# EAGLE library part DRV8834 (library ZHAW_BA)
DRV8834, Steppermotordriver, 1/32 Step, 1.5A DigiKey: Pt.Nr: 296-30428-5-ND https://www.digikey.ch/products/de/integrated-circuits-ics/pmic-motor-drivers-controllers/744?k=drv8834&k=&pkeyword=drv8834&sv=0&pv7=1&pv7=2&pv7=6&sf=0&FV=-8%7C744&quantity=&ColumnSort=0&page=1&stock=1&pageSize=25
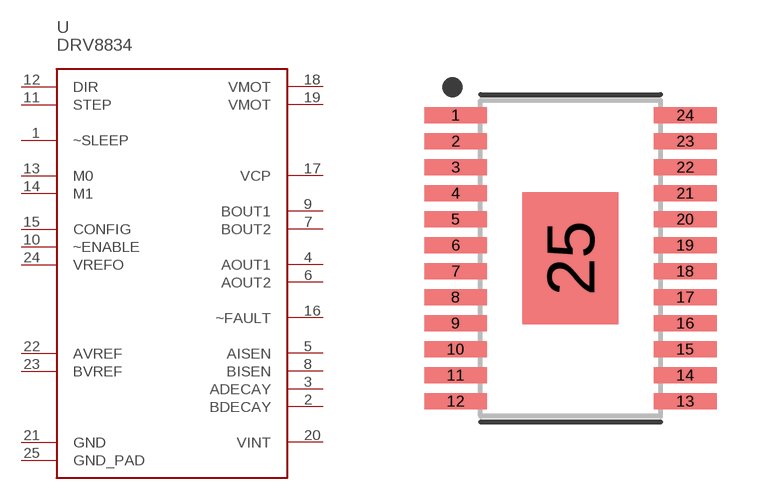
[diagram p8: symbol with the pads of TSSOP-24; footprint TSSOP-24]

Designator prefix U

## DRV8834  [TSSOP-24]
1  ~SLEEP
2  BDECAY
3  ADECAY
4  AOUT1
5  AISEN
6  AOUT2
7  BOUT2
8  BISEN
9  BOUT1
10  ~ENABLE
11  STEP
12  DIR
13  M0
14  M1
15  CONFIG
16  ~FAULT
17  VCP
18  VMOT
19  VMOT
20  VINT
21  GND
22  AVREF
23  BVREF
24  VREFO
25  GND_PAD

## Footprint TSSOP-24 (pad centres in mm)
24-SOP, 0.65 mm pitch, 6.40 mm span, 7.80 X 4.40 X 1.20 mm body, 3.30 X 2.40 mm thermal pad 24-pin SOP package with 0.65 mm pitch, 6.40 mm span with body size 7.80 X 4.40 X 1.20 mm and thermal pad size 3.30 X 2.40 mm
smd 1.572 x 0.407: 1 -2.872,3.575; 2 -2.872,2.925; 3 -2.872,2.275; 4 -2.872,1.625; 5 -2.872,0.975; 6 -2.872,0.325; 7 -2.872,-0.325; 8 -2.872,-0.975; 9 -2.872,-1.625; 10 -2.872,-2.275; 11 -2.872,-2.925; 12 -2.872,-3.575; 13 2.872,-3.575; 14 2.872,-2.925; 15 2.872,-2.275; 16 2.872,-1.625; 17 2.872,-0.975; 18 2.872,-0.325; 19 2.872,0.325; 20 2.872,0.975; 21 2.872,1.625; 22 2.872,2.275; 23 2.872,2.925; 24 2.872,3.575
smd 2.4 x 3.3: 25 0,0